# Altium footprint library TO-92-EBC.PcbLib: 1 footprints
Each footprint in its own frame and in the unit in brackets; x right, y up, seen from the top. Pads: shape width x height; smd on the part's side, far side on the other; paste and mask are expansions set on the pad; w line width, h text height; cw(c..) or ccw(c..) is an arc to the next point about the centre after c.
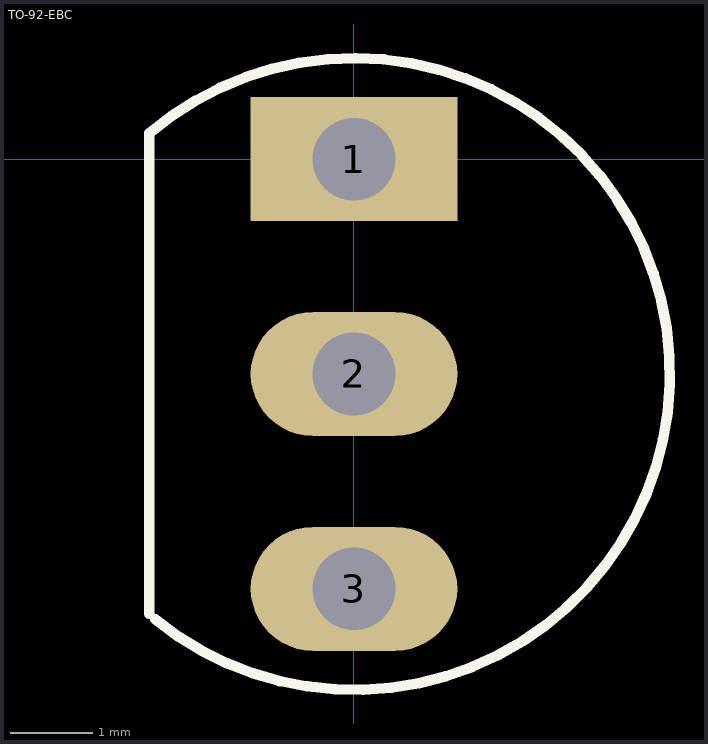
[diagram p0: the footprint, top view; thin cyan lines are the x and y axes]

## TO-92-EBC [mm]
pads (3):
  rect 2.5x1.5 hole 1: 1(0,0)
  oval 2.5x1.5 hole 1: 2(0,-2.6) 3(0,-5.2)
Top Overlay:
  lines w0.127: -2.477,-5.5 -2.477,0.312 cw(c0,-2.6) -2.407,-5.57